# EAGLE library part 4609X-101-103LF (library pedals-resistors)
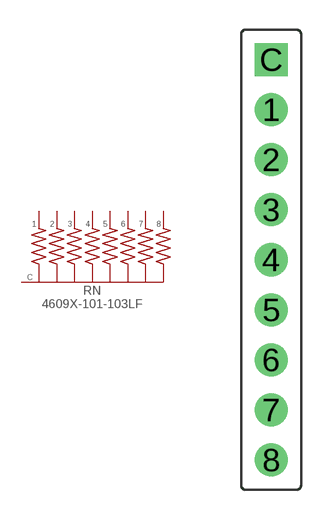
[diagram p0: symbol with the pads of RN9; footprint RN9]

Designator prefix RN

## 4609X-101-103LF  [RN9]
1  1  pas
2  2  pas
3  3  pas
4  4  pas
5  5  pas
6  6  pas
7  7  pas
8  8  pas
C  C  pas

## Footprint RN9 (pad centres in mm)
drill 1 pad 1.676: 1 0,7.62; 2 0,5.08; 3 0,2.54; 4 0,0; 5 0,-2.54; 6 0,-5.08; 7 0,-7.62; 8 0,-10.16
drill 1 pad 1.676 square: C 0,10.16